# EAGLE library part 2EDG-6P (library Generic Connector)
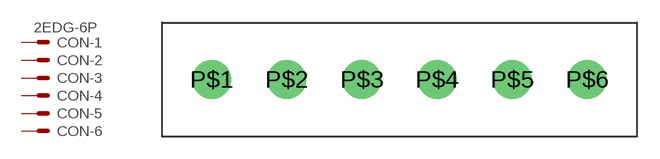
[diagram p7: symbol with the pads of 2EDG-6P-5MM-V; footprint 2EDG-6P-5MM-V]

Designator prefix CON; gates -1=KV -2=K -3=K -4=K -5=K -6=K

## 2EDG-6P-5MM-V  [2EDG-6P-5MM-V]
P$1  -1:S  pas
P$2  -2:S  pas
P$3  -3:S  pas
P$4  -4:S  pas
P$5  -5:S  pas
P$6  -6:S  pas

## Footprint 2EDG-6P-5MM-V (pad centres in mm)
drill 1.6 pad 2.6: P$1 -12.5,0; P$2 -7.5,0; P$3 -2.5,0; P$4 2.5,0; P$5 7.5,0; P$6 12.5,0